# Altium schematic symbol library dongxf_Schlib.SchLib: 300 symbols (part 4 of 6)
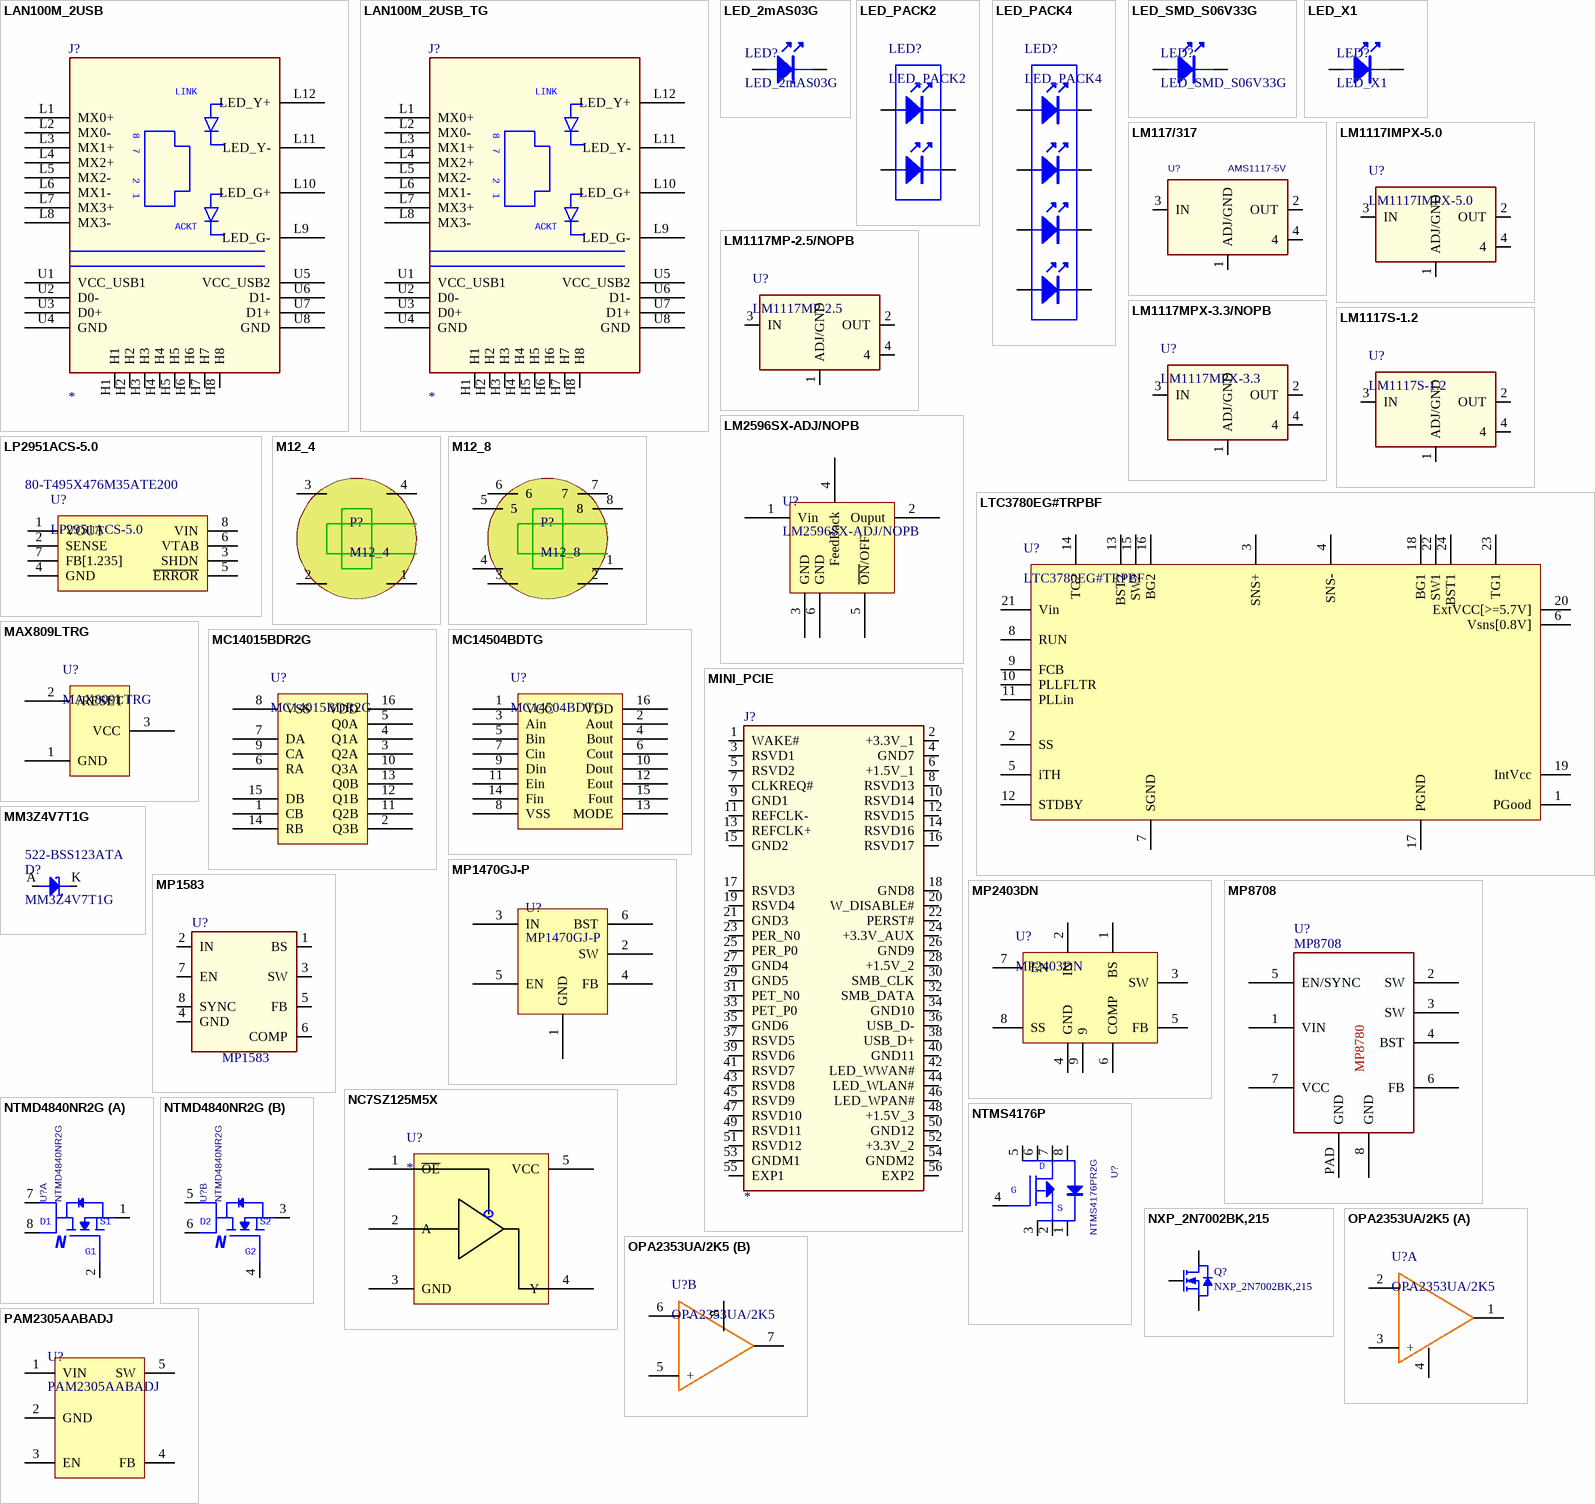
[diagram p17: symbols LAN100M_2USB to PAM2305AABADJ]

## MP2403DN
designator U?
Manufacturer: Monolithic Power Systems (MPS); Manufacturer Part Number: MP2403DN-LF; Input Voltage MAX: 32 V; Output Current: 3 A; Output Voltage: 800 mV to 28 V; Switching Frequency: 250 kHz; Supplier 1: Mouser; RoHS: RoHS Compliant; Category: Voltage Regulators - Switching Regulators; Stock 1: 238; Pricing 1: 1=5.35, 25=4.97, 100=4.59, 500=4.21, 1000=3.82, 2000=3.66 (AUD); Operating Temperature Range: - 40 C to + 85 C; Package / Case: SOIC-8N; Packaging: Tube; Series: MP2403DN; Type: Voltage Converters; Brand: Monolithic Power Systems (MPS); Mounting Style: SMD/SMT; Standard Pack Qty: 100; RoHS - Mouser: Y; Minimum Order Quantity: 1; Reeling: False; ComponentLink1URL: http://www.monolithicpower.com/DesktopModules/DocumentManage/API/Document/getDocument?id=598; ComponentLink1Description: http://www.monolithicpower.com/DesktopModules/DocumentManage/API/Document/getDocument?id=598; Supplier Part Number 1: 946-MP2403DNLF; My_Descript: MP2403DN
footprint SOIC8E
pins: 1 BS, 2 IN, 3 SW, 4 GND, 5 FB, 6 COMP, 7 EN, 8 SS, 9

## MP8708
designator U?
footprint SOIC8E
pins: 1 VIN, 2 SW, 3 SW, 4 BST, 5 EN/SYNC, 6 FB, 7 VCC, 8 GND, PAD GND
text: MP8780

## NC7SZ125M5X
designator U?
pins: 1 ~{OE}, 2 A, 3 GND, 4 Y, 5 VCC

## NTMD4840NR2G
designator U?
Manufacturer: ON Semiconductor; Configuration: Dual; Forward Transconductance - Min: 15 S; Transistor Polarity: N-Channel; Channel Mode: Enhancement; Fall Time: 3 ns; Id - Continuous Drain Current: 4.5 A; Pd - Power Dissipation: 1.95 W; Rds On - Drain-Source Resistance: 28 mOhms; Rise Time: 5 ns; Typical Turn-Off Delay Time: 17 ns; Vds - Drain-Source Breakdown Voltage: 30 V; Vgs - Gate-Source Breakdown Voltage: 20 V; Supplier 1: Mouser; Manufacturer Part Number: NTMD4840NR2G; RoHS: RoHS Compliant; Category: MOSFET; Stock 1: 0; Pricing 1: 1=0.864, 10=0.670, 100=0.432, 1000=0.346, 2500=0.292, 10000=0.281, 25000=0.270, 50000=0.266 (AUD); Package / Case: SOIC-8; Packaging: Reel; Series: NTMD4840N; Brand: ON Semiconductor; Mounting Style: SMD/SMT; Maximum Operating Temperature: + 150 C; Minimum Operating Temperature: - 55 C; Product Category: Logic- Inverters; Standard Pack Qty: 2500; RoHS - Mouser: Y; Minimum Order Quantity: 1; Reeling: True; ComponentLink1URL: http://www.mouser.com/ds/2/308/NTMD4840N-D-115849.pdf; ComponentLink1Description: http://www.mouser.com/ds/2/308/NTMD4840N-D-115849.pdf; Supplier Part Number 1: 863-NTMD4840NR2G; My_Descript: NTMD4840NR2G
footprint soic8 (SOIC8)
footprint sop8p_1_27d_6_0w_tg
part A pins: 1 S1, 2 G1, 7 D1 (power), 8 D1 (power)
part B pins: 3 S2, 4 G2, 5 D2 (power), 6 D2 (power)
part A text: N
part B text: N

## NTMS4176P
designator U?, comment NTMS4176PR2G
Dell P/N: 90267; ROOM: POWER
footprint sop8_tg
footprint sop8_tg
pins: 1 S1, 2 S2, 3 S3, 4 G, 5 D1, 6 D2, 7 D3, 8 D4
text: D; S

## NXP_2N7002BK,215
designator Q?
MOSFET Single N-Channel 60V 300mA; Manufacturer: NXP Semiconductors; Gate Charge Qg: 0.2 nC; Continuous Drain Current: 350 mA; Fall Time: 7 ns; Power Dissipation: 0.83 W; Resistance Drain-Source RDS (on): 2.8 Ohms; Forward Transconductance gFS (Max / Min): 550 mS; Gate-Source Breakdown Voltage: +/- 20 V; Rise Time: 6 ns; Typical Turn-Off Delay Time: 5 ns; Supplier 1: Mouser; Supplier Part Number 1: 771-2N7002BK215; Maximum Operating Temperature: + 150 C; Drain-Source Breakdown Voltage: 60 V; Minimum Operating Temperature: - 55 C; Mounting Style: SMD/SMT; RoHS: RoHS Compliant; Configuration: Single; Package / Case: SOT-23; Transistor Polarity: N-Channel; Packaging: Reel; Category: MOSFET; RoHS - Mouser: Y; Minimum Order Quantity: 1; Reeling: True; Standard Pack Qty: 3000; Manufacturer Part Number: 2N7002BK,215; My_Descript: NXP_2N7002BK,215
footprint SOT95P237X117-3N
pins: 1 G, 2 S, 3 D

## OPA2353UA/2K5
designator U?
High Speed Operational Amplifiers Hi-Spd Single-Sply Rail-to-Rail; Manufacturer: Texas Instruments; Supply Current: 16 mA; Common Mode Rejection Ratio - Min: 60 dB; Number of Channels: 2 Channel; Slew Rate: 22 V/us; Gain Bandwidth Product: 44 MHz; Input Offset Voltage: 8 mV; Operating Supply Voltage: 5.5 V; Supply Voltage - Min: 2.7 V; Voltage Gain dB: 122 dB; Supplier 1: Mouser; Manufacturer Part Number: OPA2353UA/2K5; RoHS: RoHS Compliant; Category: High Speed Operational Amplifiers; Stock 1: 0; Pricing 1: 1795=3.05, 2500=2.85, 5000=2.79 (AUD); Package / Case: SOIC-8; Packaging: Reel; Series: OPA2353; Brand: Texas Instruments; Mounting Style: SMD/SMT; Maximum Operating Temperature: + 85 C; Minimum Operating Temperature: - 40 C; Product Category: Amplifiers - Operational; Standard Pack Qty: 2500; Supply Voltage - Max: 5.5 V; RoHS - Mouser: Y; Minimum Order Quantity: 1795; Reeling: True; ComponentLink1URL: http://www.mouser.com/ds/2/405/sbos103-92772.pdf; ComponentLink1Description: http://www.mouser.com/ds/2/405/sbos103-92772.pdf; Supplier Part Number 1: 595-OPA2353UA/2K5; My_Descript: OPA2353UA/2K5
footprint SOIC8
part A pins: 1, 2 -, 3 +, 4
part B pins: 5 +, 6 -, 7, 8

## PAM2305AABADJ
designator U?
Manufacturer: Diodes Incorporated; Description: Voltage Regulators - Switching Regulators 1A SD DC/DC CNVTR; Supplier 1: Mouser; Manufacturer Part Number: PAM2305AABADJ; RoHS: RoHS Compliant; Category: Voltage Regulators - Switching Regulators; Stock 1: 0; Pricing 1: 1=0.824, 10=0.645, 100=0.417, 1000=0.324, 3000=0.273, 9000=0.263, 24000=0.254, 45000=0.248 (AUD); Packaging: Reel; Series: PAM2305; Brand: Diodes Incorporated; RoHS - Mouser: Y; Minimum Order Quantity: 1; Reeling: True; ComponentLink1URL: http://www.mouser.com/ds/2/115/PAM2305-247289.pdf; ComponentLink1Description: http://www.mouser.com/ds/2/115/PAM2305-247289.pdf; Supplier Part Number 1: 621-PAM2305AABADJ; My_Descript: PAM2305AABADJ
footprint SOT95P280X145-5N
pins: 1 VIN, 2 GND, 3 EN, 4 FB, 5 SW

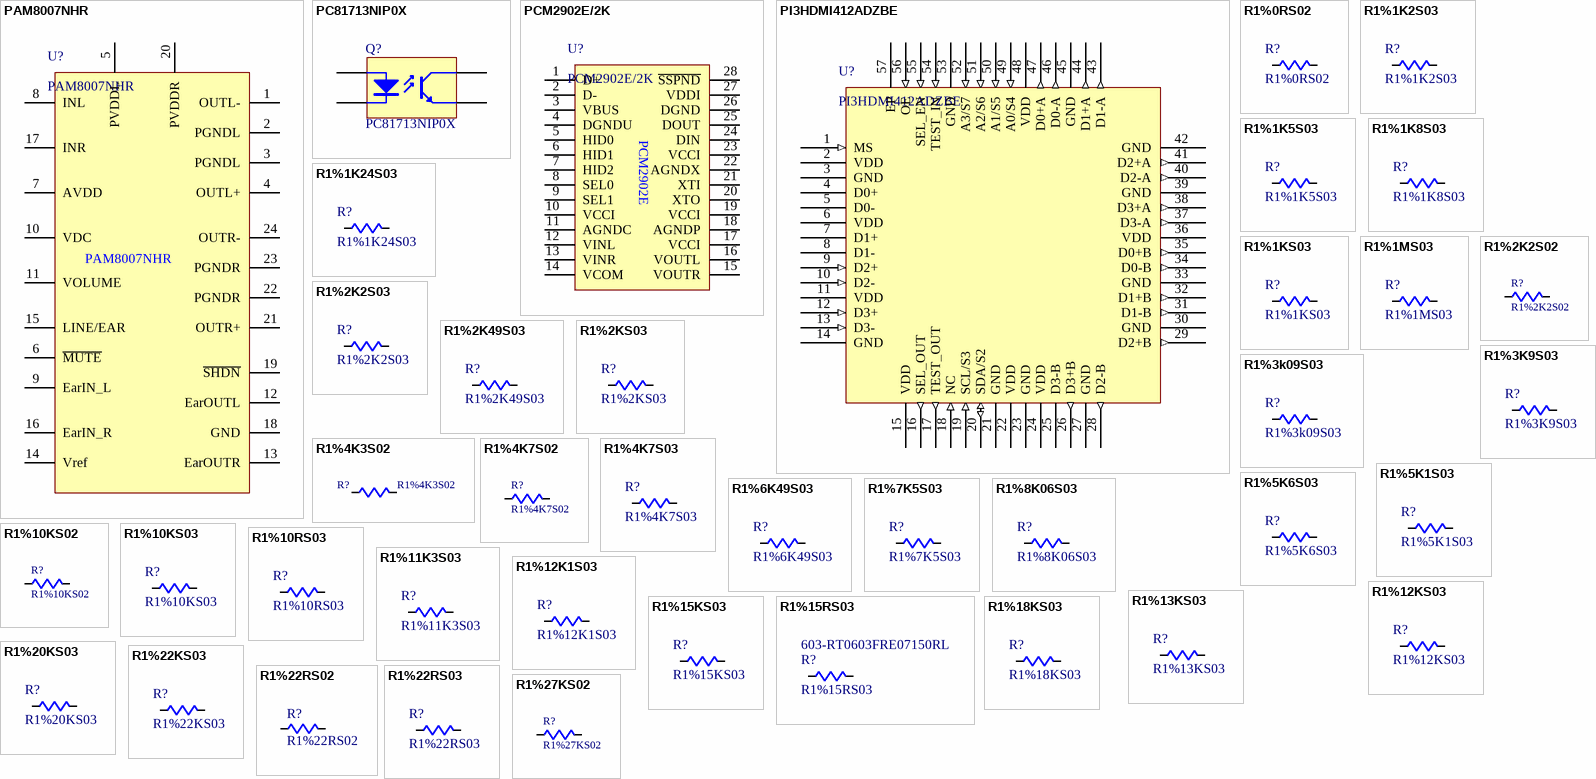
[diagram p8: symbols PAM8007NHR to R1%27KS02]

## PAM8007NHR
designator U?
IC AMP AUDIO 3W CLASS D 24SSOP; Manufacturer: Diodes Incorporated; Output Type: 2-Channel (Stereo); Max Output Power x Channels @ Load: 3.1W x 2 @ 4 Ohm; Voltage - Supply: 2.5 V ~ 5.5 V; Supplier 1: Digi-Key; Manufacturer Part Number: PAM8007NHR; RoHS: RoHS Compliant; Category: Integrated Circuits (ICs); Stock 1: 0; Pricing 1: 2500=0.42 (USD); Packaging: Tape & Reel (TR); Type: Class D; Features: Depop, Short-Circuit and Thermal Protection; Mounting Type: Surface Mount; Supplier Device Package: 24-SSOP; Package / Case: 24-SSOP (0.154", 3.90mm Width); ComponentLink1URL: http://www.diodes.com/datasheets/PAM8007.pdf; ComponentLink1Description: http://www.diodes.com/datasheets/PAM8007.pdf; My_Descript: PAM8007NHR; Supplier Part Number 1: PAM8007NHRDI-ND
footprint SSOP24P
pins: 1 OUTL-, 2 PGNDL, 3 PGNDL, 4 OUTL+, 5 PVDDL, 6 ~{MUTE}, 7 AVDD, 8 INL, 9 EarIN_L, 10 VDC, 11 VOLUME, 12 EarOUTL, 13 EarOUTR, 14 Vref, 15 LINE/EAR, 16 EarIN_R, 17 INR, 18 GND, 19 ~{SHDN}, 20 PVDDR, 21 OUTR+, 22 PGNDR, 23 PGNDR, 24 OUTR-

## PC81713NIP0X
designator Q?
Manufacturer: Sharp Microelectronics; Number of Channels: 1; Voltage - Isolation: 5000Vrms; Current Transfer Ratio (Min): 200% @ 500μA; Current Transfer Ratio (Max): 500% @ 500μA; Rise / Fall Time (Typ): 4μs, 3μs; Input Type: DC; Output Type: Transistor; Voltage - Output (Max): 80V; Current - Output / Channel: 50mA; Voltage - Forward (Vf) (Typ): 1.2V; Current - DC Forward (If) (Max): 10mA; Vce Saturation (Max): 200mV; Supplier 1: Digi-Key; Manufacturer Part Number: PC81713NIP0X; RoHS: RoHS Compliant; Category: Isolators; Stock 1: 15153; Pricing 1: 1=0.76, 10=0.608, 25=0.5224, 100=0.418, 500=0.3325, 750=0.304 (USD); Packaging: Digi-Reel?; Turn On / Turn Off Time (Typ): -; Operating Temperature: -30°C ~ 100°C; Mounting Type: Surface Mount; Package / Case: 4-SMD, Gull Wing; Supplier Device Package: 4-SMD; ComponentLink1URL: http://www.sharpsma.com/webfm_send/1837; ComponentLink1Description: http://www.sharpsma.com/webfm_send/1837; Supplier Part Number 1: 425-2772-6-ND; My_Descript: PC81713NIP0X
footprint pc817
pins: 1, 2, 3, 4

## PCM2902E/2K
designator U?
Interface - CODECs Ster Codec w/USB Ifc Snglend I/O & SPDI/F; Manufacturer: Texas Instruments; Resolution: 16 bit; Conversion Rate: 48 kHz; Interface Type: USB; SNR: 89 dB ADC/96 dB DAC; THD plus Noise: 0.01 % ADC/0.00 5% DAC; Development Kit: DEM-PCM2902; Number of ADCs: 1; Product Status: Not Recommended for New Designs; Supplier 1: Mouser; Manufacturer Part Number: PCM2902E/2K; RoHS: RoHS Compliant; Category: Interface - CODECs; Stock 1: 0; Pricing 1: 2000=7.10 (AUD); Package / Case: SSOP-28; Packaging: Reel; Series: PCM2902; Type: Audio CODEC, Stereo; Brand: Texas Instruments; Mounting Style: SMD/SMT; Maximum Operating Temperature: + 70 C; Minimum Operating Temperature: 0 C; Number of DACs: 1; Product Category: Codecs - Voice Band; Standard Pack Qty: 2000; RoHS - Mouser: Y; Minimum Order Quantity: 2000; Reeling: True; ComponentLink1URL: http://www.ti.com/litv/sles035e; ComponentLink1Description: http://www.ti.com/litv/sles035e; Supplier Part Number 1: 595-PCM2902E/2K; My_Descript: PCM2902E/2K
footprint SSOP28P
pins: 1 D+, 2 D-, 3 VBUS, 4 DGNDU, 5 HID0, 6 HID1, 7 HID2, 8 SEL0, 9 SEL1, 10 VCCI, 11 AGNDC, 12 VINL, 13 VINR, 14 VCOM, 15 VOUTR, 16 VOUTL, 17 VCCI, 18 AGNDP, 19 VCCI, 20 XTO, 21 XTI, 22 AGNDX, 23 VCCI, 24 DIN, 25 DOUT, 26 DGND, 27 VDDI, 28 ~{SSPND}
text: PCM2902E

## PI3HDMI412ADZBE
designator U?
Manufacturer: Pericom; Number of Channels: 1 Channel; Off Time - Max: 5 ns; On Resistance - Max: 50 Ohms; Maximum Power Dissipation: 1 W; Number of Switches: 1; Operating Supply Current: 280 mA; Operating Supply Voltage: 3.3 V; Propagation Delay Time: 2 ns; Switch Configuration: SPST; Supplier 1: Mouser; Manufacturer Part Number: PI3HDMI412ADZBE; RoHS: RoHS Compliant; Category: Multiplexer Switch ICs; Stock 1: 91; Pricing 1: 1=6.43, 10=5.16, 100=4.70, 250=4.24, 500=3.81, 1000=3.21, 2500=3.05, 5000=2.93 (AUD); Package / Case: TQFN-56; Packaging: Tube; Series: PI3HDMI412; Brand: Pericom; Mounting Style: SMD/SMT; Maximum Operating Temperature: + 85 C; Minimum Operating Temperature: - 40 C; Product Category: Video Switches; Standard Pack Qty: 46; RoHS - Mouser: Y; Minimum Order Quantity: 1; Reeling: False; ComponentLink1URL: http://www.mouser.com/ds/2/322/PI3HDMI412AD-372162.pdf; ComponentLink1Description: http://www.mouser.com/ds/2/322/PI3HDMI412AD-372162.pdf; Supplier Part Number 1: 729-PI3HDMI412ADZBE; My_Descript: PI3HDMI412ADZBE
footprint QFN50P800X800X80-57N
pins: 1 MS (in), 2 VDD (power), 3 GND (power), 4 D0+, 5 D0-, 6 VDD (power), 7 D1+, 8 D1-, 9 D2+ (in), 10 D2- (in), 11 VDD (power), 12 D3+ (in), 13 D3- (in), 14 GND (power), 15 VDD (power), 16 SEL_OUT (out), 17 TEST_OUT (out), 18 NC (in), 19 SCL/S3 (in), 20 SDA/S2 (io), 21 GND (power), 22 VDD (power), 23 GND (power), 24 VDD (power), 25 D3-B (power), 26 D3+B (out), 27 GND (power), 28 D2-B (out), 29 D2+B (out), 30 GND (power), 31 D1-B (out), 32 D1+B (out), 33 GND (power), 34 D0-B (out), 35 D0+B (out), 36 VDD (power), 37 D3-A (out), 38 D3+A (out), 39 GND (power), 40 D2-A (out), 41 D2+A (out), 42 GND (power), 43 D1-A (out), 44 D1+A (out), 45 GND (power), 46 D0-A (out), 47 D0+A (out), 48 VDD (power), 49 A0/S4 (in), 50 A1/S5 (in), 51 A2/S6 (in), 52 A3/S7 (in), 53 GND (power), 54 TEST_IN (in), 55 SEL_EN (in), 56 OE (in), 57 EP (power)

## R1%0RS02
designator R?
Thick Film Resistors - SMD 0.0ohm 1%; Manufacturer: Yageo; Manufacturer Part Number: RC0402FR-070RL; Resistance: 0 Ohms; Case Height: 0.35 mm; Case Length: 1 mm; Case Width: 0.5 mm; Supplier 1: Mouser; RoHS: RoHS Compliant By Exemption; Category: Thick Film Resistors - SMD; Stock 1: 230000; Pricing 1: 10000=0.003 (AUD); Operating Temperature Range: - 55 C to + 155 C; Package / Case: 0402 (1005 metric); Packaging: Reel; Power Rating: -; Product: Thick Film Resistors Zero-Ohm; Series: RC; Temperature Coefficient: -; Tolerance: -; Type: General Purpose Chip Resistor Surface Mount; Voltage Rating: -; Brand: Yageo; Case Code - in: 0402; Case Code - mm: 1005; RoHS - Mouser: E; Minimum Order Quantity: 10000; Reeling: True; ComponentLink1URL: http://www.mouser.com/ds/2/447/PYu-RC0402_51_RoHS_L_6_r-8721.pdf; ComponentLink1Description: http://www.mouser.com/ds/2/447/PYu-RC0402_51_RoHS_L_6_r-8721.pdf; Supplier Part Number 1: 603-RC0402FR-070RL; My_Descript: R1%0RS02
footprint R0402 (1005 metric)
pins: 1, 2

## R1%1K2S03
designator R?
Thin Film Resistors - SMD 1/10W 1.2K ohm 1% 50ppm; Manufacturer: Yageo; Manufacturer Part Number: RT0603FRE071K2L; Power Rating: 100 mW; Resistance: 1.2 kOhms; Temperature Coefficient: 50 PPM / C; Voltage Rating: 75 V; Case Height: 0.45 mm; Case Length: 1.6 mm; Case Width: 0.8 mm; Supplier 1: Mouser; RoHS: RoHS Compliant By Exemption; Category: Thin Film Resistors - SMD; Stock 1: 20645; Pricing 1: 1=0.135, 50=0.077, 100=0.058, 1000=0.046, 5000=0.038, 10000=0.030, 25000=0.024, 100000=0.019 (AUD); Operating Temperature Range: - 55 C to + 125 C; Package / Case: 0603 (1608 metric); Packaging: Reel; Product: Thin Film Resistors SMD; Series: RT; Tolerance: 1 %; Type: High Precision, High Stability; Brand: Yageo; Case Code - in: 0603; Case Code - mm: 1608; RoHS - Mouser: E; Minimum Order Quantity: 1; Reeling: True; ComponentLink1URL: http://www.yageo.com/documents/recent/PYu-RT_1-to-0.05_RoHS_L_4.pdf; ComponentLink1Description: http://www.yageo.com/documents/recent/PYu-RT_1-to-0.05_RoHS_L_4.pdf; Supplier Part Number 1: 603-RT0603FRE071K2L; My_Descript: R1%1K2S03
footprint R0603 (1608 metric)
pins: 1, 2

## R1%1K5S03
designator R?
Thin Film Resistors - SMD 1/10W 1.5K ohm 1% 50ppm; Manufacturer: Yageo; Manufacturer Part Number: RT0603FRE071K5L; Power Rating: 100 mW; Resistance: 1.5 kOhms; Temperature Coefficient: 50 PPM / C; Voltage Rating: 75 V; Case Height: 0.45 mm; Case Length: 1.6 mm; Case Width: 0.8 mm; Product Status: New at Mouser; Supplier 1: Mouser; RoHS: RoHS Compliant By Exemption; Category: Thin Film Resistors - SMD; Stock 1: 11274; Pricing 1: 1=0.135, 50=0.077, 100=0.058, 1000=0.046, 5000=0.038, 10000=0.030, 25000=0.024, 100000=0.019 (AUD); Operating Temperature Range: - 55 C to + 125 C; Package / Case: 0603 (1608 metric); Packaging: Reel; Product: Thin Film Resistors SMD; Series: RT; Tolerance: 1 %; Type: High Precision, High Stability; Brand: Yageo; Case Code - in: 0603; Case Code - mm: 1608; RoHS - Mouser: E; Minimum Order Quantity: 1; Reeling: True; ComponentLink1URL: http://www.yageo.com/documents/recent/PYu-RT_1-to-0.05_RoHS_L_4.pdf; ComponentLink1Description: http://www.yageo.com/documents/recent/PYu-RT_1-to-0.05_RoHS_L_4.pdf; Supplier Part Number 1: 603-RT0603FRE071K5L; My_Descript: R1%1K5S03
footprint R0603 (1608 metric)
pins: 1, 2

## R1%1K8S03
designator R?
Thin Film Resistors - SMD 1/10W 1.8K ohm 1% 50ppm; Manufacturer: Yageo; Manufacturer Part Number: RT0603FRE071K8L; Power Rating: 100 mW; Resistance: 1.8 kOhms; Temperature Coefficient: 50 PPM / C; Voltage Rating: 75 V; Case Height: 0.45 mm; Case Length: 1.6 mm; Case Width: 0.8 mm; Supplier 1: Mouser; RoHS: RoHS Compliant By Exemption; Category: Thin Film Resistors - SMD; Stock 1: 0; Pricing 1: 1=0.135, 50=0.077, 100=0.058, 1000=0.046, 5000=0.038, 10000=0.030, 25000=0.024, 100000=0.019 (AUD); Operating Temperature Range: - 55 C to + 125 C; Package / Case: 0603 (1608 metric); Packaging: Reel; Product: Thin Film Resistors SMD; Series: RT; Tolerance: 1 %; Type: High Precision, High Stability; Brand: Yageo; Case Code - in: 0603; Case Code - mm: 1608; RoHS - Mouser: E; Minimum Order Quantity: 1; Reeling: True; ComponentLink1URL: http://www.yageo.com/documents/recent/PYu-RT_1-to-0.05_RoHS_L_4.pdf; ComponentLink1Description: http://www.yageo.com/documents/recent/PYu-RT_1-to-0.05_RoHS_L_4.pdf; Supplier Part Number 1: 603-RT0603FRE071K8L; My_Descript: R1%1K8S03
footprint R0603 (1608 metric)
pins: 1, 2

## R1%1K24S03
designator R?
RES 1.24K OHM 1/10W 1% 0603 SMD; Manufacturer: Yageo; Manufacturer Part Number: RC0603FR-071K24L; Power (Watts): 0.1W, 1/10W; Temperature Coefficient: ±100ppm/°C; Supplier 1: Digi-Key; RoHS: RoHS Compliant; Category: Resistors; Stock 1: 281802; Pricing 1: 1=0.1, 10=0.015, 25=0.0108, 100=0.006, 250=0.00456, 500=0.00364, 1000=0.00268, 2500=0.00233 (USD); Packaging: Digi-Reel?; Resistance (Ohms): 1.24k; Tolerance: ±1%; Composition: Thick Film; Features: -; Package / Case: 0603 (1608 Metric); Supplier Device Package: 0603; Size / Dimension: 0.063" L x 0.031" W (1.60mm x 0.80mm); Height: 0.022" (0.55mm); Number of Terminations: 2; ComponentLink1URL: http://www.yageo.com/documents/recent/PYu-RC0603_51_RoHS_L_4.pdf; ComponentLink1Description: http://www.yageo.com/documents/recent/PYu-RC0603_51_RoHS_L_4.pdf; Supplier Part Number 1: 311-1.24KHRDKR-ND; My_Descript: R1%1K24S03
footprint R0603 (1608 metric)
pins: 1, 2

## R1%1KS03
designator R?
Thick Film Resistors - SMD 1K ohm 1% 1/10W; Manufacturer: Yageo; Manufacturer Part Number: AC0603FR-071KL; Power Rating: 100 mW; Resistance: 1 kOhms; Temperature Coefficient: 100 PPM / C; Voltage Rating: 50 V; Case Height: 0.45 mm; Case Length: 1.6 mm; Case Width: 0.8 mm; Supplier 1: Mouser; RoHS: RoHS Compliant By Exemption; Category: Thick Film Resistors - SMD; Stock 1: 32917; Pricing 1: 1=0.135, 10=0.014, 100=0.011, 500=0.008, 1000=0.005, 5000=0.004, 25000=0.003 (AUD); Operating Temperature Range: - 55 C to + 155 C; Package / Case: 0603 (1608 metric); Packaging: Reel; Product: Thick Film Resistors SMD; Series: AC; Tolerance: 1 %; Type: Chip Resistor Surface Mount; Brand: Yageo; Case Code - in: 0603; Case Code - mm: 1608; RoHS - Mouser: E; Minimum Order Quantity: 1; Reeling: True; ComponentLink1URL: http://www.mouser.com/ds/2/447/PYu-AC_51_RoHS_L_2-10915.pdf; ComponentLink1Description: http://www.mouser.com/ds/2/447/PYu-AC_51_RoHS_L_2-10915.pdf; Supplier Part Number 1: 603-AC0603FR-071KL; My_Descript: R1%1KS03
footprint R0603 (1608 metric)
pins: 1, 2

## R1%1MS03
designator R?
Thick Film Resistors - SMD 1M ohm 1% 1/10W; Manufacturer: Yageo; Manufacturer Part Number: AF0603FR-071ML; Power Rating: 100 mW; Resistance: 1 MOhms; Temperature Coefficient: 100 PPM / C; Voltage Rating: 50 V; Case Height: 0.45 mm; Case Length: 1.6 mm; Case Width: 0.8 mm; Supplier 1: Mouser; RoHS: RoHS Compliant By Exemption; Category: Thick Film Resistors - SMD; Stock 1: 16576; Pricing 1: 1=0.027, 5000=0.014, 15000=0.011, 100000=0.009 (AUD); Operating Temperature Range: - 55 C to + 155 C; Package / Case: 0603 (1608 metric); Packaging: Reel; Product: Thick Film Resistors General Purpose; Series: AF series; Tolerance: 1 %; Type: Anti-Sulfurated Chip Resistors; Brand: Yageo; Case Code - in: 0603; Case Code - mm: 1608; RoHS - Mouser: E; Minimum Order Quantity: 1; Reeling: True; ComponentLink1URL: http://www.mouser.com/ds/2/447/PYu-AF_51_RoHS_L_0-13854.pdf; ComponentLink1Description: http://www.mouser.com/ds/2/447/PYu-AF_51_RoHS_L_0-13854.pdf; Supplier Part Number 1: 603-AF0603FR-071ML; My_Descript: R1%1MS03
footprint R0603 (1608 metric)
pins: 1, 2

## R1%2K2S02
designator R?
Thick Film Resistors - SMD 2.2K OHM 5%; Manufacturer: Yageo; Manufacturer Part Number: RC0402JR-072K2L; Temperature Coefficient: 100 PPM / C; Voltage Rating: 50 V; Power Rating: 62.5 mW (1/16 W); Resistance: 2.2 kOhms; Value: 2.2K; Supplier 1: Mouser; Supplier Part Number 1: 603-RC0402JR-072K2L; Product Category: 0402 SMD Chip Resistors; Case Code - in: 0402; Packaging: Reel; Package / Case: 0402 (1005 metric); Product: Thick Film Resistors General Purpose; Termination Style: SMD/SMT; Series: RC; RoHS: RoHS Compliant; Operating Temperature Range: - 55 C to + 155 C; Tolerance: 5 %; Case Code - mm: 1005; Dimensions: 0.5 mm W x 1 mm L x 0.35 mm H; RoHS - Mouser: Y; Minimum Order Quantity: 10000; Reeling: True; Standard Pack Qty: 10000; Category: Thick Film Resistors - SMD; My_Descript: R1%2K2S02
footprint R0402 (1005 metric)
pins: 1, 2

## R1%2K2S03
designator R?
Thin Film Resistors - SMD 1/10W 2.2K ohm 1% 50ppm; Manufacturer: Yageo; Manufacturer Part Number: RT0603FRE072K2L; Power Rating: 100 mW; Resistance: 2.2 kOhms; Temperature Coefficient: 50 PPM / C; Voltage Rating: 75 V; Case Height: 0.45 mm; Case Length: 1.6 mm; Case Width: 0.8 mm; Supplier 1: Mouser; RoHS: RoHS Compliant By Exemption; Category: Thin Film Resistors - SMD; Stock 1: 19151; Pricing 1: 1=0.135, 50=0.077, 100=0.058, 1000=0.046, 5000=0.038, 10000=0.030, 25000=0.024, 100000=0.019 (AUD); Operating Temperature Range: - 55 C to + 125 C; Package / Case: 0603 (1608 metric); Packaging: Reel; Product: Thin Film Resistors SMD; Series: RT; Tolerance: 1 %; Type: High Precision, High Stability; Brand: Yageo; Case Code - in: 0603; Case Code - mm: 1608; RoHS - Mouser: E; Minimum Order Quantity: 1; Reeling: True; ComponentLink1URL: http://www.yageo.com/documents/recent/PYu-RT_1-to-0.05_RoHS_L_4.pdf; ComponentLink1Description: http://www.yageo.com/documents/recent/PYu-RT_1-to-0.05_RoHS_L_4.pdf; Supplier Part Number 1: 603-RT0603FRE072K2L; My_Descript: R1%2K2S03
footprint R0603 (1608 metric)
pins: 1, 2

## R1%2K49S03
designator R?
Thick Film Resistors - SMD 1/10W 2.49K ohm 1%; Manufacturer: Yageo; Manufacturer Part Number: AC0603FR-072K49L; Power Rating: 100 mW; Resistance: 2.49 kOhms; Temperature Coefficient: 100 PPM / C; Voltage Rating: 50 V; Case Height: 0.45 mm; Case Length: 1.6 mm; Case Width: 0.8 mm; Supplier 1: Mouser; RoHS: RoHS Compliant By Exemption; Category: Thick Film Resistors - SMD; Stock 1: 0; Pricing 1: 1=0.135, 10=0.032, 100=0.024, 1000=0.008, 5000=0.005, 25000=0.004 (AUD); Operating Temperature Range: - 55 C to + 155 C; Package / Case: 0603 (1608 metric); Packaging: Reel; Product: Thick Film Resistors SMD; Series: AC; Tolerance: 1 %; Type: Chip Resistor Surface Mount; Brand: Yageo; Case Code - in: 0603; Case Code - mm: 1608; RoHS - Mouser: E; Minimum Order Quantity: 1; Reeling: True; ComponentLink1URL: http://www.mouser.com/ds/2/447/PYu-AC_51_RoHS_L_2-10915.pdf; ComponentLink1Description: http://www.mouser.com/ds/2/447/PYu-AC_51_RoHS_L_2-10915.pdf; Supplier Part Number 1: 603-AC0603FR-072K49L; My_Descript: R1%2K49S03
footprint R0603 (1608 metric)
pins: 1, 2

## R1%2KS03
designator R?
Thick Film Resistors - SMD 1/10W 2K ohm 1%; Manufacturer: Yageo; Manufacturer Part Number: AC0603FR-072KL; Power Rating: 100 mW; Resistance: 2 kOhms; Temperature Coefficient: 100 PPM / C; Voltage Rating: 50 V; Case Height: 0.45 mm; Case Length: 1.6 mm; Case Width: 0.8 mm; Supplier 1: Mouser; RoHS: RoHS Compliant By Exemption; Category: Thick Film Resistors - SMD; Stock 1: 28510; Pricing 1: 1=0.135, 10=0.032, 100=0.024, 1000=0.008, 5000=0.005, 25000=0.004 (AUD); Operating Temperature Range: - 55 C to + 155 C; Package / Case: 0603 (1608 metric); Packaging: Reel; Product: Thick Film Resistors SMD; Series: AC; Tolerance: 1 %; Type: Chip Resistor Surface Mount; Brand: Yageo; Case Code - in: 0603; Case Code - mm: 1608; RoHS - Mouser: E; Minimum Order Quantity: 1; Reeling: True; ComponentLink1URL: http://www.mouser.com/ds/2/447/PYu-AC_51_RoHS_L_2-10915.pdf; ComponentLink1Description: http://www.mouser.com/ds/2/447/PYu-AC_51_RoHS_L_2-10915.pdf; Supplier Part Number 1: 603-AC0603FR-072KL; My_Descript: R1%2KS03
footprint R0603 (1608 metric)
pins: 1, 2

## R1%3k09S03
designator R?
Thick Film Resistors - SMD 3.09K OHM 1%; Manufacturer: Yageo; Manufacturer Part Number: RC0603FR-073K09L; Power Rating: 100 mW; Resistance: 3.09 kOhms; Temperature Coefficient: 100 PPM / C; Voltage Rating: 50 V; Case Height: 0.45 mm; Case Length: 1.6 mm; Case Width: 0.8 mm; Supplier 1: Mouser; RoHS: RoHS Compliant; Category: Thick Film Resistors - SMD; Stock 1: 55000; Pricing 1: 5000=0.003 (AUD); Operating Temperature Range: - 55 C to + 155 C; Package / Case: 0603 (1608 metric); Packaging: Reel; Product: Thick Film Resistors General Purpose; Series: RC; Tolerance: 1 %; Type: General Purpose Chip Resistor Surface Mount; Brand: Yageo; Case Code - in: 0603; Case Code - mm: 1608; Product Category: 0603 SMD Chip Resistors; Standard Pack Qty: 5000; RoHS - Mouser: Y; Minimum Order Quantity: 5000; Reeling: True; ComponentLink1URL: http://www.mouser.com/catalog/specsheets/RC0603.pdf; ComponentLink1Description: http://www.mouser.com/catalog/specsheets/RC0603.pdf; Supplier Part Number 1: 603-RC0603FR-073K09L; My_Descript: R1%3k09S03
footprint R0603 (1608 metric)
pins: 1, 2

## R1%3K9S03
designator R?
Thin Film Resistors - SMD 1/10W 3.9K ohm 1% 50ppm; Manufacturer: Yageo; Manufacturer Part Number: RT0603FRE073K9L; Power Rating: 100 mW; Resistance: 3.9 kOhms; Temperature Coefficient: 50 PPM / C; Voltage Rating: 75 V; Case Height: 0.45 mm; Case Length: 1.6 mm; Case Width: 0.8 mm; Supplier 1: Mouser; RoHS: RoHS Compliant By Exemption; Category: Thin Film Resistors - SMD; Stock 1: 0; Pricing 1: 1=0.135, 50=0.078, 100=0.058, 1000=0.046, 5000=0.041, 10000=0.028, 25000=0.026, 50000=0.023, 100000=0.020 (AUD); Operating Temperature Range: - 55 C to + 125 C; Package / Case: 0603 (1608 metric); Packaging: Reel; Product: Thin Film Resistors SMD; Series: RT; Tolerance: 1 %; Type: High Precision, High Stability; Brand: Yageo; Case Code - in: 0603; Case Code - mm: 1608; RoHS - Mouser: E; Minimum Order Quantity: 1; Reeling: True; ComponentLink1URL: http://www.yageo.com/documents/recent/PYu-RT_1-to-0.05_RoHS_L_4.pdf; ComponentLink1Description: http://www.yageo.com/documents/recent/PYu-RT_1-to-0.05_RoHS_L_4.pdf; Supplier Part Number 1: 603-RT0603FRE073K9L; My_Descript: R1%3K9S03
footprint R0603 (1608 metric)
pins: 1, 2

## R1%4K3S02
designator R?
Thick Film Resistors - SMD 4.3K OHM 1%; Manufacturer Part Number: RC0402FR-074K3L; Manufacturer: Yageo; Voltage Rating: 50 V; Temperature Coefficient: 100 PPM / C; Resistance: 4.3 kOhms; Power Rating: 62.5 mW (1/16 W); Value: 4.3K; Supplier 1: Mouser; Supplier Part Number 1: 603-RC0402FR-074K3L; Product Category: 0402 SMD Chip Resistors; Case Code - mm: 1005; Tolerance: 1 %; Series: RC; Product: Thick Film Resistors General Purpose; Packaging: Reel; Operating Temperature Range: - 55 C to + 155 C; RoHS: RoHS Compliant By Exemption; Category: Thick Film Resistors - SMD; Reeling: True; Minimum Order Quantity: 10000; RoHS - Mouser: E; Case Code - in: 0402; Dimensions: 0.5 mm W x 1 mm L x 0.35 mm H; Package / Case: 0402 (1005 metric); Termination Style: SMD/SMT; My_Descript: R1%4K3S02
footprint R0402 (1005 metric)
pins: 1, 2

## R1%4K7S02
designator R?
Thick Film Resistors - SMD 4.7K OHM 5%; Manufacturer: Yageo; Manufacturer Part Number: RC0402JR-074K7L; Temperature Coefficient: 100 PPM / C; Voltage Rating: 50 V; Resistance: 4.7 kOhms; Supplier 1: Mouser; Supplier Part Number 1: 603-RC0402JR-074K7L; Tolerance: 5 %; Termination Style: SMD/SMT; RoHS - Mouser: E; Product Category: 0402 SMD Chip Resistors; Package / Case: 0402 (1005 metric); Operating Temperature Range: - 55 C to + 155 C; Product: Thick Film Resistors General Purpose; RoHS: RoHS Compliant By Exemption; Value: 4.7K; My_Descript: R1%4K7S02
footprint R0402 (1005 metric)
pins: 1, 2

## R1%4K7S03
designator R?
Thin Film Resistors - SMD 1/10W 4.7K ohm 1% 50ppm; Manufacturer: Yageo; Manufacturer Part Number: RT0603FRE074K7L; Power Rating: 100 mW; Resistance: 4.7 kOhms; Temperature Coefficient: 50 PPM / C; Voltage Rating: 75 V; Case Height: 0.45 mm; Case Length: 1.6 mm; Case Width: 0.8 mm; Supplier 1: Mouser; RoHS: RoHS Compliant By Exemption; Category: Thin Film Resistors - SMD; Stock 1: 1354; Pricing 1: 1=0.135, 50=0.054, 100=0.022, 1000=0.014, 5000=0.011, 10000=0.009, 25000=0.008 (AUD); Operating Temperature Range: - 55 C to + 125 C; Package / Case: 0603 (1608 metric); Packaging: Reel; Product: Thin Film Resistors SMD; Series: RT; Tolerance: 1 %; Type: High Precision, High Stability; Brand: Yageo; Case Code - in: 0603; Case Code - mm: 1608; RoHS - Mouser: E; Minimum Order Quantity: 1; Reeling: True; ComponentLink1URL: http://www.yageo.com/documents/recent/PYu-RT_1-to-0.05_RoHS_L_4.pdf; ComponentLink1Description: http://www.yageo.com/documents/recent/PYu-RT_1-to-0.05_RoHS_L_4.pdf; Supplier Part Number 1: 603-RT0603FRE074K7L; My_Descript: R1%4K7S03
footprint R0603 (1608 metric)
pins: 1, 2

## R1%5K1S03
designator R?
Thick Film Resistors - SMD 1/10W 75.1K ohm 1% 1/10W 5.1K ohm 1%; Manufacturer: Yageo; Manufacturer Part Number: AC0603FR-075K1L; Power Rating: 100 mW; Resistance: 5.1 kOhms; Temperature Coefficient: 100 PPM / C; Voltage Rating: 50 V; Case Height: 0.45 mm; Case Length: 1.6 mm; Case Width: 0.8 mm; Supplier 1: Mouser; RoHS: RoHS Compliant By Exemption; Category: Thick Film Resistors - SMD; Stock 1: 4188; Pricing 1: 1=0.135, 10=0.032, 100=0.024, 1000=0.008, 5000=0.005, 25000=0.004 (AUD); Operating Temperature Range: - 55 C to + 155 C; Package / Case: 0603 (1608 metric); Packaging: Reel; Product: Thick Film Resistors SMD; Series: AC; Tolerance: 1 %; Type: Chip Resistor Surface Mount; Brand: Yageo; Case Code - in: 0603; Case Code - mm: 1608; RoHS - Mouser: E; Minimum Order Quantity: 1; Reeling: True; ComponentLink1URL: http://www.mouser.com/ds/2/447/PYu-AC_51_RoHS_L_2-10915.pdf; ComponentLink1Description: http://www.mouser.com/ds/2/447/PYu-AC_51_RoHS_L_2-10915.pdf; Supplier Part Number 1: 603-AC0603FR-075K1L; My_Descript: R1%5K1S03
footprint R0603 (1608 metric)
pins: 1, 2

## R1%5K6S03
designator R?
Thin Film Resistors - SMD 1/10W 5.6K ohm 1% 50ppm; Manufacturer: Yageo; Manufacturer Part Number: RT0603FRE075K6L; Power Rating: 100 mW; Resistance: 5.6 kOhms; Temperature Coefficient: 50 PPM / C; Voltage Rating: 75 V; Case Height: 0.45 mm; Case Length: 1.6 mm; Case Width: 0.8 mm; Supplier 1: Mouser; RoHS: RoHS Compliant By Exemption; Category: Thin Film Resistors - SMD; Stock 1: 5679; Pricing 1: 1=0.135, 50=0.077, 100=0.058, 1000=0.046, 5000=0.038, 10000=0.030, 25000=0.024, 100000=0.019 (AUD); Operating Temperature Range: - 55 C to + 125 C; Package / Case: 0603 (1608 metric); Packaging: Reel; Product: Thin Film Resistors SMD; Series: RT; Tolerance: 1 %; Type: High Precision, High Stability; Brand: Yageo; Case Code - in: 0603; Case Code - mm: 1608; RoHS - Mouser: E; Minimum Order Quantity: 1; Reeling: True; ComponentLink1URL: http://www.yageo.com/documents/recent/PYu-RT_1-to-0.05_RoHS_L_4.pdf; ComponentLink1Description: http://www.yageo.com/documents/recent/PYu-RT_1-to-0.05_RoHS_L_4.pdf; Supplier Part Number 1: 603-RT0603FRE075K6L; My_Descript: R1%5K6S03
footprint R0603 (1608 metric)
pins: 1, 2

## R1%6K49S03
designator R?
Thin Film Resistors - SMD 1/10W 6.49K ohm 1% 50ppm; Manufacturer: Yageo; Manufacturer Part Number: RT0603FRE076K49L; Power Rating: 100 mW; Resistance: 6.49 kOhms; Temperature Coefficient: 50 PPM / C; Voltage Rating: 75 V; Case Height: 0.45 mm; Case Length: 1.6 mm; Case Width: 0.8 mm; Supplier 1: Mouser; RoHS: RoHS Compliant By Exemption; Category: Thin Film Resistors - SMD; Stock 1: 0; Pricing 1: 1=0.135, 50=0.077, 100=0.058, 1000=0.046, 5000=0.038, 10000=0.030, 25000=0.024, 100000=0.019 (AUD); Operating Temperature Range: - 55 C to + 125 C; Package / Case: 0603 (1608 metric); Packaging: Reel; Product: Thin Film Resistors SMD; Series: RT; Tolerance: 1 %; Type: High Precision, High Stability; Brand: Yageo; Case Code - in: 0603; Case Code - mm: 1608; RoHS - Mouser: E; Minimum Order Quantity: 1; Reeling: True; ComponentLink1URL: http://www.yageo.com/documents/recent/PYu-RT_1-to-0.05_RoHS_L_4.pdf; ComponentLink1Description: http://www.yageo.com/documents/recent/PYu-RT_1-to-0.05_RoHS_L_4.pdf; Supplier Part Number 1: 603-RT0603FRE076K49L; My_Descript: R1%6K49S03
footprint R0603 (1608 metric)
pins: 1, 2

## R1%7K5S03
designator R?
Thin Film Resistors - SMD 1/10W 8.06K ohm 1% 50ppm; Manufacturer: Yageo; Manufacturer Part Number: RT0603FRE077K5L; Power Rating: 100 mW; Resistance: 7.5 kOhms; Temperature Coefficient: 50 PPM / C; Voltage Rating: 75 V; Case Height: 0.45 mm; Case Length: 1.6 mm; Case Width: 0.8 mm; My_Descript: R1%7K5S03; Supplier 1: Mouser; RoHS: RoHS Compliant By Exemption; Category: Thin Film Resistors - SMD; Stock 1: 13410; Pricing 1: 1=0.135, 50=0.077, 100=0.058, 1000=0.046, 5000=0.038, 10000=0.030, 25000=0.024, 100000=0.019 (AUD); Operating Temperature Range: - 55 C to + 125 C; Package / Case: 0603 (1608 metric); Packaging: Reel; Product: Thin Film Resistors SMD; Series: RT; Tolerance: 1 %; Type: High Precision, High Stability; Brand: Yageo; Case Code - in: 0603; Case Code - mm: 1608; RoHS - Mouser: E; Minimum Order Quantity: 1; Reeling: True; ComponentLink1URL: http://www.yageo.com/documents/recent/PYu-RT_1-to-0.05_RoHS_L_4.pdf; ComponentLink1Description: http://www.yageo.com/documents/recent/PYu-RT_1-to-0.05_RoHS_L_4.pdf; Supplier Part Number 1: 603-RT0603FRE077K5L
footprint R0603 (1608 metric)
pins: 1, 2

## R1%8K06S03
designator R?
Thin Film Resistors - SMD 1/10W 8.06K ohm 1% 50ppm; Manufacturer: Yageo; Manufacturer Part Number: RT0603FRE078K06L; Power Rating: 100 mW; Resistance: 8.06 kOhms; Temperature Coefficient: 50 PPM / C; Voltage Rating: 75 V; Case Height: 0.45 mm; Case Length: 1.6 mm; Case Width: 0.8 mm; Supplier 1: Mouser; RoHS: RoHS Compliant By Exemption; Category: Thin Film Resistors - SMD; Stock 1: 0; Pricing 1: 1=0.135, 50=0.077, 100=0.058, 1000=0.046, 5000=0.038, 10000=0.030, 25000=0.024, 100000=0.019 (AUD); Operating Temperature Range: - 55 C to + 125 C; Package / Case: 0603 (1608 metric); Packaging: Reel; Product: Thin Film Resistors SMD; Series: RT; Tolerance: 1 %; Type: High Precision, High Stability; Brand: Yageo; Case Code - in: 0603; Case Code - mm: 1608; RoHS - Mouser: E; Minimum Order Quantity: 1; Reeling: True; ComponentLink1URL: http://www.yageo.com/documents/recent/PYu-RT_1-to-0.05_RoHS_L_4.pdf; ComponentLink1Description: http://www.yageo.com/documents/recent/PYu-RT_1-to-0.05_RoHS_L_4.pdf; Supplier Part Number 1: 603-RT0603FRE078K06L; My_Descript: R1%8K06S03; Supplier 2: Mouser; Stock 2: 0; Pricing 2: 1=0.135, 50=0.078, 100=0.058, 1000=0.046, 5000=0.041, 10000=0.028, 25000=0.026, 50000=0.023, 100000=0.020 (AUD); Supplier Part Number 2: 603-RT0603FRE0713KL; Supplier 3: Mouser; Stock 3: 24234; Pricing 3: 1=0.135, 50=0.077, 100=0.058, 1000=0.046, 5000=0.038, 10000=0.030, 25000=0.024, 100000=0.019 (AUD); Supplier Part Number 3: 603-RT0603FRE0733RL; Supplier 4: Mouser; Stock 4: 4750; Pricing 4: 1=0.135, 50=0.077, 100=0.061, 1000=0.049, 5000=0.041, 10000=0.028, 25000=0.024, 100000=0.020 (AUD); Supplier Part Number 4: 603-RT0603FRE0715RL; Supplier 5: Mouser; Stock 5: 55000; Pricing 5: 5000=0.003 (AUD); Product Category: 0603 SMD Chip Resistors; Standard Pack Qty: 5000; ComponentLink2URL: http://www.mouser.com/catalog/specsheets/RC0603.pdf; ComponentLink2Description: http://www.mouser.com/catalog/specsheets/RC0603.pdf; Supplier Part Number 5: 603-RC0603FR-073K09L
footprint R0603 (1608 metric)
pins: 1, 2

## R1%10KS02
designator R?
Thick Film Resistors - SMD 10K OHM 5%; Manufacturer: Yageo; Manufacturer Part Number: RC0402JR-0710KL; PowerRating: 62.5 mW (1/16 W); Resistance: 10 kOhms; Temperature Coefficient: 100 PPM / C; Voltage Rating: 50 V; Supplier 1: Mouser; Supplier Part Number 1: 603-RC0402JR-0710KL; Termination Style: SMD/SMT; RoHS: RoHS Compliant; Package / Case: 0402 (1005 metric); Series: RC; Product: Thick Film Resistors General Purpose; Power Rating: 62.5 mW (1/16 W); Operating Temperature Range: - 55 C to + 155 C; Dimensions: 0.5 mm W x 1 mm L x 0.35 mm H; Packaging: Reel; Category: Thick Film Resistors - SMD; RoHS - Mouser: Y; Product Category: 0402 SMD Chip Resistors; Tolerance: 5 %; Standard Pack Qty: 10000; Reeling: True; Case Code - in: 0402; Case Code - mm: 1005; Minimum Order Quantity: 10000; Value: 10K; My_Descript: R1%10KS02
footprint R0402 (1005 metric)
pins: 1, 2

## R1%10KS03
designator R?
Thin Film Resistors - SMD 1/10W 10K ohm 1% 50ppm; Manufacturer: Yageo; Manufacturer Part Number: RT0603FRE1310KL; Power Rating: 100 mW; Resistance: 10 kOhms; Temperature Coefficient: 50 PPM / C; Voltage Rating: 75 V; Case Height: 0.45 mm; Case Length: 1.6 mm; Case Width: 0.8 mm; Product Status: New at Mouser; Supplier 1: Mouser; RoHS: RoHS Compliant By Exemption; Category: Thin Film Resistors - SMD; Stock 1: 19280; Pricing 1: 1=0.135, 50=0.081, 100=0.061, 1000=0.049, 5000=0.041, 10000=0.031, 20000=0.026, 40000=0.023, 100000=0.020 (AUD); Operating Temperature Range: - 55 C to + 125 C; Package / Case: 0603 (1608 metric); Packaging: Reel; Product: Thin Film Resistors SMD; Series: RT; Tolerance: 1 %; Type: High Precision, High Stability; Brand: Yageo; Case Code - in: 0603; Case Code - mm: 1608; RoHS - Mouser: E; Minimum Order Quantity: 1; Reeling: True; ComponentLink1URL: http://www.yageo.com/documents/recent/PYu-RT_1-to-0.05_RoHS_L_4.pdf; ComponentLink1Description: http://www.yageo.com/documents/recent/PYu-RT_1-to-0.05_RoHS_L_4.pdf; Supplier Part Number 1: 603-RT0603FRE1310KL; My_Descript: R1%10KS03
footprint R0603 (1608 metric)
pins: 1, 2

## R1%10RS03
designator R?
Thin Film Resistors - SMD 1/10W 10 ohm 1% 50ppm; Manufacturer: Yageo; Manufacturer Part Number: RT0603FRE0710RL; Power Rating: 100 mW; Resistance: 10 Ohms; Temperature Coefficient: 50 PPM / C; Voltage Rating: 75 V; Case Height: 0.45 mm; Case Length: 1.6 mm; Case Width: 0.8 mm; Product Status: New at Mouser; Supplier 1: Mouser; RoHS: RoHS Compliant By Exemption; Category: Thin Film Resistors - SMD; Stock 1: 23122; Pricing 1: 1=0.135, 50=0.077, 100=0.058, 1000=0.046, 5000=0.038, 10000=0.030, 25000=0.024, 100000=0.019 (AUD); Operating Temperature Range: - 55 C to + 125 C; Package / Case: 0603 (1608 metric); Packaging: Reel; Product: Thin Film Resistors SMD; Series: RT; Tolerance: 1 %; Type: High Precision, High Stability; Brand: Yageo; Case Code - in: 0603; Case Code - mm: 1608; RoHS - Mouser: E; Minimum Order Quantity: 1; Reeling: True; ComponentLink1URL: http://www.yageo.com/documents/recent/PYu-RT_1-to-0.05_RoHS_L_4.pdf; ComponentLink1Description: http://www.yageo.com/documents/recent/PYu-RT_1-to-0.05_RoHS_L_4.pdf; Supplier Part Number 1: 603-RT0603FRE0710RL; My_Descript: R1%10RS03
footprint R0603 (1608 metric)
pins: 1, 2

## R1%11K3S03
designator R?
Thin Film Resistors - SMD 1/10W 11.3K ohm 1% 50ppm; Manufacturer: Yageo; Manufacturer Part Number: RT0603FRE0711K3L; Power Rating: 100 mW; Resistance: 11.3 kOhms; Temperature Coefficient: 50 PPM / C; Voltage Rating: 75 V; Case Height: 0.45 mm; Case Length: 1.6 mm; Case Width: 0.8 mm; Supplier 1: Mouser; RoHS: RoHS Compliant By Exemption; Category: Thin Film Resistors - SMD; Stock 1: 0; Pricing 1: 1=0.135, 50=0.077, 100=0.058, 1000=0.046, 5000=0.038, 10000=0.030, 25000=0.024, 100000=0.019 (AUD); Operating Temperature Range: - 55 C to + 125 C; Package / Case: 0603 (1608 metric); Packaging: Reel; Product: Thin Film Resistors SMD; Series: RT; Tolerance: 1 %; Type: High Precision, High Stability; Brand: Yageo; Case Code - in: 0603; Case Code - mm: 1608; RoHS - Mouser: E; Minimum Order Quantity: 1; Reeling: True; ComponentLink1URL: http://www.yageo.com/documents/recent/PYu-RT_1-to-0.05_RoHS_L_4.pdf; ComponentLink1Description: http://www.yageo.com/documents/recent/PYu-RT_1-to-0.05_RoHS_L_4.pdf; Supplier Part Number 1: 603-RT0603FRE0711K3L; My_Descript: R1%11K3S03
footprint R0603 (1608 metric)
pins: 1, 2

## R1%12K1S03
designator R?
Thin Film Resistors - SMD 1/10W 12.1K ohm 1% 50ppm; Manufacturer: Yageo; Manufacturer Part Number: RT0603FRE0712K1L; Power Rating: 100 mW; Resistance: 12.1 kOhms; Temperature Coefficient: 50 PPM / C; Voltage Rating: 75 V; Case Height: 0.45 mm; Case Length: 1.6 mm; Case Width: 0.8 mm; Supplier 1: Mouser; RoHS: RoHS Compliant By Exemption; Category: Thin Film Resistors - SMD; Stock 1: 0; Pricing 1: 1=0.135, 50=0.081, 100=0.061, 1000=0.049, 5000=0.041, 10000=0.031, 25000=0.026, 50000=0.023, 100000=0.020 (AUD); Operating Temperature Range: - 55 C to + 125 C; Package / Case: 0603 (1608 metric); Packaging: Reel; Product: Thin Film Resistors SMD; Series: RT; Tolerance: 1 %; Type: High Precision, High Stability; Brand: Yageo; Case Code - in: 0603; Case Code - mm: 1608; RoHS - Mouser: E; Minimum Order Quantity: 1; Reeling: True; ComponentLink1URL: http://www.yageo.com/documents/recent/PYu-RT_1-to-0.05_RoHS_L_4.pdf; ComponentLink1Description: http://www.yageo.com/documents/recent/PYu-RT_1-to-0.05_RoHS_L_4.pdf; Supplier Part Number 1: 603-RT0603FRE0712K1L; My_Descript: R1%12K1S03
footprint R0603 (1608 metric)
pins: 1, 2

## R1%12KS03
designator R?
Thin Film Resistors - SMD 1/10W 12K ohm 1% 50ppm; Manufacturer: Yageo; Manufacturer Part Number: RT0603FRE0712KL; Power Rating: 100 mW; Resistance: 12 kOhms; Temperature Coefficient: 50 PPM / C; Voltage Rating: 75 V; Case Height: 0.45 mm; Case Length: 1.6 mm; Case Width: 0.8 mm; Product Status: New at Mouser; Supplier 1: Mouser; RoHS: RoHS Compliant By Exemption; Category: Thin Film Resistors - SMD; Stock 1: 12336; Pricing 1: 1=0.135, 50=0.077, 100=0.058, 1000=0.046, 5000=0.038, 10000=0.030, 25000=0.024, 100000=0.019 (AUD); Operating Temperature Range: - 55 C to + 125 C; Package / Case: 0603 (1608 metric); Packaging: Reel; Product: Thin Film Resistors SMD; Series: RT; Tolerance: 1 %; Type: High Precision, High Stability; Brand: Yageo; Case Code - in: 0603; Case Code - mm: 1608; RoHS - Mouser: E; Minimum Order Quantity: 1; Reeling: True; ComponentLink1URL: http://www.yageo.com/documents/recent/PYu-RT_1-to-0.05_RoHS_L_4.pdf; ComponentLink1Description: http://www.yageo.com/documents/recent/PYu-RT_1-to-0.05_RoHS_L_4.pdf; Supplier Part Number 1: 603-RT0603FRE0712KL; My_Descript: R1%12KS03
footprint R0603 (1608 metric)
pins: 1, 2

## R1%13KS03
designator R?
Thin Film Resistors - SMD 1/10W 13K ohm 1% 50ppm; Manufacturer: Yageo; Manufacturer Part Number: RT0603FRE0713KL; Power Rating: 100 mW; Resistance: 13 kOhms; Temperature Coefficient: 50 PPM / C; Voltage Rating: 75 V; Case Height: 0.45 mm; Case Length: 1.6 mm; Case Width: 0.8 mm; Supplier 1: Mouser; RoHS: RoHS Compliant By Exemption; Category: Thin Film Resistors - SMD; Stock 1: 0; Pricing 1: 1=0.135, 50=0.078, 100=0.058, 1000=0.046, 5000=0.041, 10000=0.028, 25000=0.026, 50000=0.023, 100000=0.020 (AUD); Operating Temperature Range: - 55 C to + 125 C; Package / Case: 0603 (1608 metric); Packaging: Reel; Product: Thin Film Resistors SMD; Series: RT; Tolerance: 1 %; Type: High Precision, High Stability; Brand: Yageo; Case Code - in: 0603; Case Code - mm: 1608; RoHS - Mouser: E; Minimum Order Quantity: 1; Reeling: True; ComponentLink1URL: http://www.yageo.com/documents/recent/PYu-RT_1-to-0.05_RoHS_L_4.pdf; ComponentLink1Description: http://www.yageo.com/documents/recent/PYu-RT_1-to-0.05_RoHS_L_4.pdf; Supplier Part Number 1: 603-RT0603FRE0713KL; My_Descript: R1%13KS03
footprint R0603 (1608 metric)
pins: 1, 2

## R1%15KS03
designator R?
Thick Film Resistors - SMD 1/10W 15K ohm 1%; Manufacturer: Yageo; Manufacturer Part Number: AC0603FR-0715KL; Power Rating: 100 mW; Resistance: 15 kOhms; Temperature Coefficient: 100 PPM / C; Voltage Rating: 50 V; Case Height: 0.45 mm; Case Length: 1.6 mm; Case Width: 0.8 mm; Supplier 1: Mouser; RoHS: RoHS Compliant By Exemption; Category: Thick Film Resistors - SMD; Stock 1: 39490; Pricing 1: 1=0.135, 10=0.032, 100=0.024, 1000=0.008, 5000=0.005, 25000=0.004 (AUD); Operating Temperature Range: - 55 C to + 155 C; Package / Case: 0603 (1608 metric); Packaging: Reel; Product: Thick Film Resistors SMD; Series: AC; Tolerance: 1 %; Type: Chip Resistor Surface Mount; Brand: Yageo; Case Code - in: 0603; Case Code - mm: 1608; RoHS - Mouser: E; Minimum Order Quantity: 1; Reeling: True; ComponentLink1URL: http://www.mouser.com/ds/2/447/PYu-AC_51_RoHS_L_2-10915.pdf; ComponentLink1Description: http://www.mouser.com/ds/2/447/PYu-AC_51_RoHS_L_2-10915.pdf; Supplier Part Number 1: 603-AC0603FR-0715KL; My_Descript: R1%15KS03
footprint R0603 (1608 metric)
pins: 1, 2

## R1%15RS03
designator R?  Supplier Part Number 2: 603-RT0603FRE07150RL
Thin Film Resistors - SMD 1/10W 15 ohm 1% 50ppm; Manufacturer: Yageo; Manufacturer Part Number: RT0603FRE0715RL; Power Rating: 100 mW; Resistance: 15 Ohms; Temperature Coefficient: 50 PPM / C; Voltage Rating: 75 V; Case Height: 0.45 mm; Case Length: 1.6 mm; Case Width: 0.8 mm; Supplier 1: Mouser; RoHS: RoHS Compliant By Exemption; Category: Thin Film Resistors - SMD; Stock 1: 4750; Pricing 1: 1=0.135, 50=0.077, 100=0.061, 1000=0.049, 5000=0.041, 10000=0.028, 25000=0.024, 100000=0.020 (AUD); Operating Temperature Range: - 55 C to + 125 C; Package / Case: 0603 (1608 metric); Packaging: Reel; Product: Thin Film Resistors SMD; Series: RT; Tolerance: 1 %; Type: High Precision, High Stability; Brand: Yageo; Case Code - in: 0603; Case Code - mm: 1608; RoHS - Mouser: E; Minimum Order Quantity: 1; Reeling: True; ComponentLink1URL: http://www.yageo.com/documents/recent/PYu-RT_1-to-0.05_RoHS_L_4.pdf; ComponentLink1Description: http://www.yageo.com/documents/recent/PYu-RT_1-to-0.05_RoHS_L_4.pdf; Supplier Part Number 1: 603-RT0603FRE0715RL; My_Descript: R1%15RS03; Supplier 2: Mouser; Stock 2: 4541; Pricing 2: 1=0.135, 50=0.077, 100=0.058, 1000=0.046, 5000=0.038, 10000=0.030, 25000=0.024, 100000=0.019 (AUD)
footprint R0603 (1608 metric)
pins: 1, 2

## R1%18KS03
designator R?
Thin Film Resistors - SMD 1/10W 180K ohm 1% 50ppm; Manufacturer: Yageo; Manufacturer Part Number: RT0603FRE0718KL; Power Rating: 100 mW; Resistance: 18 kOhms; Temperature Coefficient: 50 PPM / C; Voltage Rating: 75 V; Case Height: 0.45 mm; Case Length: 1.6 mm; Case Width: 0.8 mm; My_Descript: R1%18KS03; Supplier 1: Mouser; RoHS: RoHS Compliant By Exemption; Category: Thin Film Resistors - SMD; Stock 1: 0; Pricing 1: 1=0.135, 50=0.078, 100=0.058, 1000=0.046, 5000=0.041, 10000=0.028, 25000=0.026, 50000=0.023, 100000=0.020 (AUD); Operating Temperature Range: - 55 C to + 125 C; Package / Case: 0603 (1608 metric); Packaging: Reel; Product: Thin Film Resistors SMD; Series: RT; Tolerance: 1 %; Type: High Precision, High Stability; Brand: Yageo; Case Code - in: 0603; Case Code - mm: 1608; RoHS - Mouser: E; Minimum Order Quantity: 1; Reeling: True; ComponentLink1URL: http://www.yageo.com/documents/recent/PYu-RT_1-to-0.05_RoHS_L_4.pdf; ComponentLink1Description: http://www.yageo.com/documents/recent/PYu-RT_1-to-0.05_RoHS_L_4.pdf; Supplier Part Number 1: 603-RT0603FRE0718KL
footprint R0603 (1608 metric)
pins: 1, 2

## R1%20KS03
designator R?
Thin Film Resistors - SMD 1/10W 20K ohm 1% 50ppm; Manufacturer: Yageo; Manufacturer Part Number: RT0603FRE0720KL; Power Rating: 100 mW; Resistance: 20 kOhms; Temperature Coefficient: 50 PPM / C; Voltage Rating: 75 V; Case Height: 0.45 mm; Case Length: 1.6 mm; Case Width: 0.8 mm; Product Status: New at Mouser; Supplier 1: Mouser; RoHS: RoHS Compliant By Exemption; Category: Thin Film Resistors - SMD; Stock 1: 21199; Pricing 1: 1=0.135, 50=0.077, 100=0.058, 1000=0.046, 5000=0.038, 10000=0.030, 25000=0.024, 100000=0.019 (AUD); Operating Temperature Range: - 55 C to + 125 C; Package / Case: 0603 (1608 metric); Packaging: Reel; Product: Thin Film Resistors SMD; Series: RT; Tolerance: 1 %; Type: High Precision, High Stability; Brand: Yageo; Case Code - in: 0603; Case Code - mm: 1608; RoHS - Mouser: E; Minimum Order Quantity: 1; Reeling: True; ComponentLink1URL: http://www.yageo.com/documents/recent/PYu-RT_1-to-0.05_RoHS_L_4.pdf; ComponentLink1Description: http://www.yageo.com/documents/recent/PYu-RT_1-to-0.05_RoHS_L_4.pdf; Supplier Part Number 1: 603-RT0603FRE0720KL; My_Descript: R1%20KS03
footprint R0603 (1608 metric)
pins: 1, 2

## R1%22KS03
designator R?
Thin Film Resistors - SMD 1/10W 22K ohm 1% 50ppm; Manufacturer: Yageo; Manufacturer Part Number: RT0603FRE0722KL; Power Rating: 100 mW; Resistance: 22 kOhms; Temperature Coefficient: 50 PPM / C; Voltage Rating: 75 V; Case Height: 0.45 mm; Case Length: 1.6 mm; Case Width: 0.8 mm; Product Status: New at Mouser; Supplier 1: Mouser; RoHS: RoHS Compliant By Exemption; Category: Thin Film Resistors - SMD; Stock 1: 6684; Pricing 1: 1=0.135, 50=0.077, 100=0.058, 1000=0.046, 5000=0.038, 10000=0.030, 25000=0.024, 100000=0.019 (AUD); Operating Temperature Range: - 55 C to + 125 C; Package / Case: 0603 (1608 metric); Packaging: Reel; Product: Thin Film Resistors SMD; Series: RT; Tolerance: 1 %; Type: High Precision, High Stability; Brand: Yageo; Case Code - in: 0603; Case Code - mm: 1608; RoHS - Mouser: E; Minimum Order Quantity: 1; Reeling: True; ComponentLink1URL: http://www.yageo.com/documents/recent/PYu-RT_1-to-0.05_RoHS_L_4.pdf; ComponentLink1Description: http://www.yageo.com/documents/recent/PYu-RT_1-to-0.05_RoHS_L_4.pdf; Supplier Part Number 1: 603-RT0603FRE0722KL; My_Descript: R1%22KS03
footprint R0603 (1608 metric)
pins: 1, 2

## R1%22RS02
designator R?
Thick Film Resistors - SMD 22 OHM 5%; Manufacturer Part Number: RC0402JR-0722RL; Manufacturer: Yageo; Value: 22; Case Length: 1 mm; Voltage Rating: 50 V; Case Width: 0.5 mm; Temperature Coefficient: 100 PPM / C; Power Rating: 62.5 mW (1/16 W); Resistance: 22 Ohms; Case Height: 0.35 mm; Supplier 1: Mouser; Supplier Part Number 1: 603-RC0402JR-0722RL; Case Code - in: 0402; Category: Thick Film Resistors - SMD; Case Code - mm: 1005; Reeling: True; RoHS: RoHS Compliant; Operating Temperature Range: - 55 C to + 155 C; Packaging: Reel; Type: General Purpose Chip Resistor Surface Mount; RoHS - Mouser: Y; Tolerance: 5 %; Series: RC; Minimum Order Quantity: 10000; Product Category: 0402 SMD Chip Resistors; Standard Pack Qty: 10000; Package / Case: 0402 (1005 metric); Product: Thick Film Resistors General Purpose; My_Descript: R1%22RS02
footprint R0402 (1005 metric)
pins: 1, 2